# Altium footprint library IND_0402.PcbLib: 1 footprints
Each footprint in its own frame and in the unit in brackets; x right, y up, seen from the top. Pads: shape width x height; smd on the part's side, far side on the other; paste and mask are expansions set on the pad; w line width, h text height; cw(c..) or ccw(c..) is an arc to the next point about the centre after c.
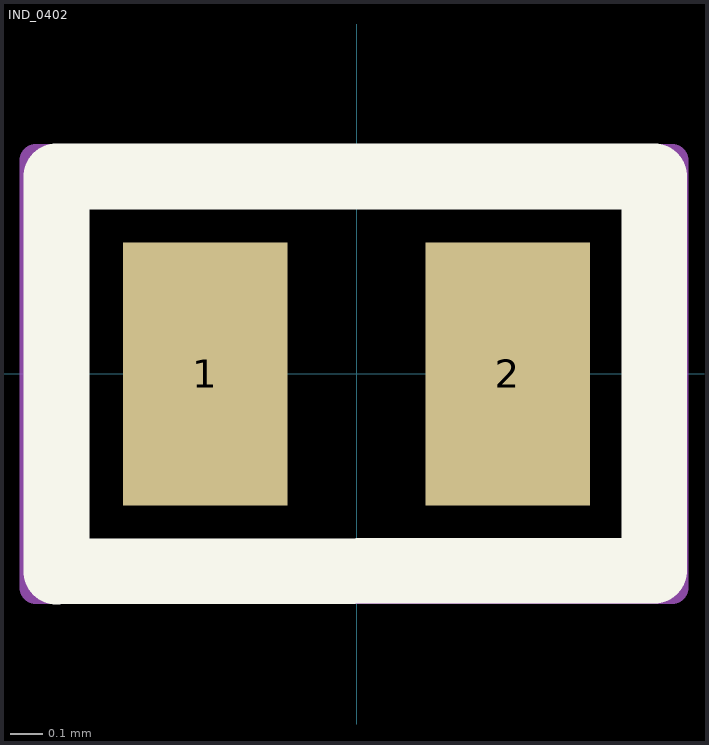
[diagram p0: the footprint, top view; thin cyan lines are the x and y axes]

## IND_0402 [mm]
pads (2):
  rect 0.5x0.8 smd: 1(-0.46,0) 2(0.46,0)
Top Overlay:
  lines w0.2: -0.912,-0.6 -0.912,0.6 0.905,0.6 0.905,-0.598 -0.912,-0.6
Top Courtyard:
  lines w0.1: -0.975,-0.65 -0.7,-0.65 0.959,-0.65 0.959,-0.381 0.959,0.65 0.368,0.65 -0.975,0.65 -0.975,0.4 -0.975,-0.65
3D body "LQW15AN27NG8ZD.STEP": height 0.6, standoff 0, extent -0.5,-0.3 0.5,0.3